# Altium footprint library RUT2CLOUD.PcbLib: 44 footprints (part 3 of 3)
Each footprint in its own frame and in the unit in brackets; x right, y up, seen from the top. Pads: shape width x height; smd on the part's side, far side on the other; paste and mask are expansions set on the pad; w line width, h text height; cw(c..) or ccw(c..) is an arc to the next point about the centre after c.
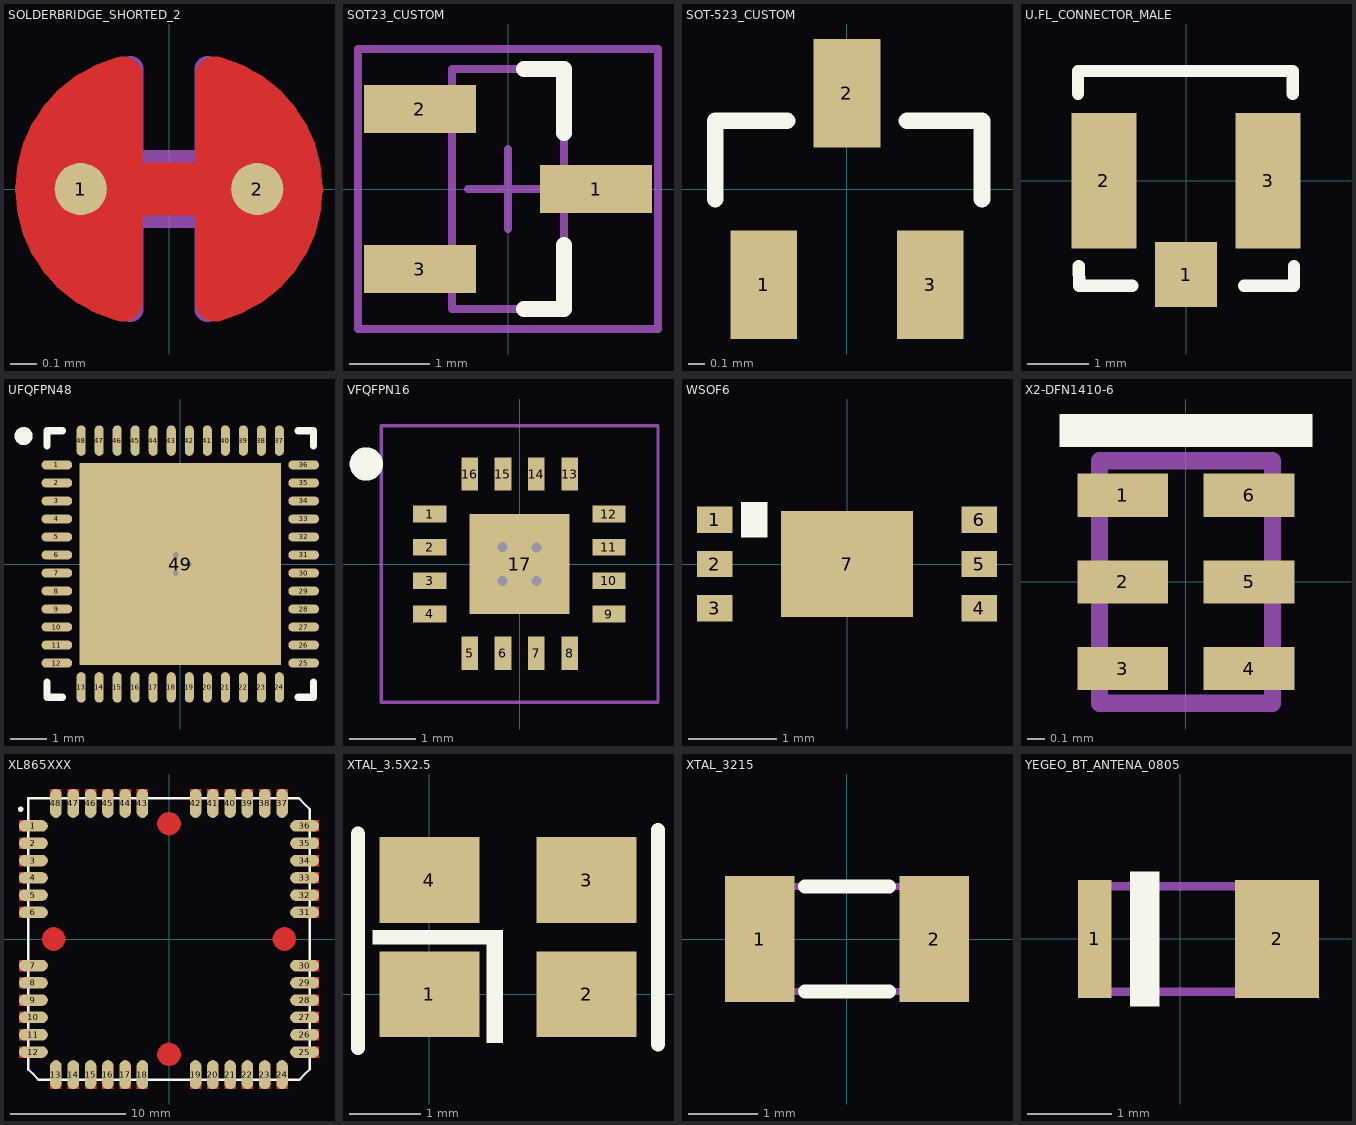
[diagram p2: the footprints below, top view; thin cyan lines are the x and y axes]

## SOLDERBRIDGE_SHORTED_2 [mm]
pads (2):
  round 0.2 smd paste-10: 1(-0.338,0) 2(0.338,0)
Top Layer:
  region: -0.102,-0.432 -0.178,-0.505 -0.296,-0.467 -0.361,-0.424 -0.434,-0.351 -0.488,-0.292 -0.546,-0.193 -0.574,-0.099 -0.569,0.122 -0.544,0.193 -0.46,0.33 -0.376,0.411 -0.284,0.469 -0.183,0.5 -0.132,0.483 -0.102,0.43
  region: 0.102,0.432 0.178,0.505 0.296,0.467 0.361,0.424 0.434,0.351 0.488,0.292 0.546,0.193 0.574,0.099 0.569,-0.122 0.544,-0.193 0.46,-0.33 0.376,-0.411 0.284,-0.469 0.183,-0.5 0.132,-0.483 0.102,-0.43
  lines w0.152: -0.178,-0.431 cw(c-0.068,0) -0.178,0.431 ; 0.178,-0.431 ccw(c0.068,0) 0.178,0.431
  lines w0.203: -0.338,0 0.338,0
Top Solder:
  circle w0.61: c0.028,0 r0.279
  circle w0.61: c-0.028,0 r0.279
Mechanical 7:
  lines w0.1: -0.148,-0.459 cw(c-0.067,0) -0.148,0.459 -0.148,0.1 0.148,0.1 0.148,0.459 cw(c0.067,0) 0.148,-0.459 0.148,-0.1 -0.148,-0.1 -0.148,-0.459

## SOT23_CUSTOM [mm] "SOT23, 3-Leads, Body 3.0x2.5mm (max), Pitch 0.95mm, IPC Medium Density"
height 1.1
pads (3):
  rect 1.4x0.6 smd: 1(1.1,0) 2(-1.1,1) 3(-1.1,-1)
Top Overlay:
  lines w0.2: 0.2,-1.5 0.7,-1.5 0.7,-0.7 ; 0.2,1.5 0.7,1.5 0.7,0.7
Mechanical 13:
  lines w0.1: -0.7,-1.5 0.7,-1.5 0.7,1.5 -0.7,1.5 -0.7,-1.5
Mechanical 15:
  lines w0.1: -0.5,0 0.5,0 ; 0,-0.5 0,0.5 ; -1.875,-1.75 1.875,-1.75 1.875,1.75 -1.875,1.75 -1.875,-1.75
3D body "SOT23.STEP": height 1, standoff -0.1, extent -1.569,-1.5 1.569,1.5

## SOT-523_CUSTOM [mm]
pads (3):
  rect 0.4x0.65 smd: 1(-0.5,-0.575) 2(0,0.575) 3(0.5,-0.575)
Top Overlay:
  lines w0.1: -0.79,-0.06 -0.79,0.41 -0.36,0.41 ; 0.36,0.41 0.81,0.41 0.81,-0.06
3D body "User Library-SOT-523.step": height 0.8, standoff 0, extent -0.79,-0.81 0.81,0.79

## U.FL_CONNECTOR_MALE [mm]
height 1.25
pads (3):
  rect 1x1.05 smd: 1(0,-1.52)
  rect 1.05x2.2 smd: 2(-1.33,0) 3(1.33,0)
Top Overlay:
  lines w0.2: -1.75,1.41 -1.75,1.78 1.728,1.78 1.728,1.41 ; -1.739,-1.38 -1.73,-1.7 -0.87,-1.7 ; 0.94,-1.7 1.75,-1.7 1.75,-1.38
3D body "U_FL-R-SMT-1.step": height 1.25, standoff -0.01, extent -1.5,-1.55 1.5,1.55

## UFQFPN48 [mm] "QFN, 48-Leads, Body 7,00x7,00mm, Pitch 0,50mm, Thermal Pad 5,60x5,60mm, IPC Medium Density"
height 0.6
pads (49):
  oval 0.85x0.25 smd: 1(-3.425,2.75) 2(-3.425,2.25) 3(-3.425,1.75) 4(-3.425,1.25) 5(-3.425,0.75) 6(-3.425,0.25) 7(-3.425,-0.25) 8(-3.425,-0.75) 9(-3.425,-1.25) 10(-3.425,-1.75) 11(-3.425,-2.25) 12(-3.425,-2.75) 25(3.425,-2.75) 26(3.425,-2.25) 27(3.425,-1.75) 28(3.425,-1.25) 29(3.425,-0.75) 30(3.425,-0.25) 31(3.425,0.25) 32(3.425,0.75) 33(3.425,1.25) 34(3.425,1.75) 35(3.425,2.25) 36(3.425,2.75)
  oval 0.25x0.85 smd: 13(-2.75,-3.425) 14(-2.25,-3.425) 15(-1.75,-3.425) 16(-1.25,-3.425) 17(-0.75,-3.425) 18(-0.25,-3.425) 19(0.25,-3.425) 20(0.75,-3.425) 21(1.25,-3.425) 22(1.75,-3.425) 23(2.25,-3.425) 24(2.75,-3.425) 37(2.75,3.425) 38(2.25,3.425) 39(1.75,3.425) 40(1.25,3.425) 41(0.75,3.425) 42(0.25,3.425) 43(-0.25,3.425) 44(-0.75,3.425) 45(-1.25,3.425) 46(-1.75,3.425) 47(-2.25,3.425) 48(-2.75,3.425)
  rect 5.6x5.6 smd: 49(0,0)
via -0.127,0.254 diameter 0.3 hole 0.15
via -0.127,-0.254 diameter 0.3 hole 0.15
via 0.254,0 diameter 0.3 hole 0.15
Top Overlay:
  circle w0.25: c-4.35,3.55 r0.125
  lines w0.2: -3.7,-3.275 -3.7,-3.7 -3.275,-3.7 ; -3.7,3.275 -3.7,3.7 -3.275,3.7 ; 3.275,-3.7 3.7,-3.7 3.7,-3.275 ; 3.275,3.7 3.7,3.7 3.7,3.275
3D body "ALSRobot-QFN48 7x7.step": height 0.78, standoff -0.02, extent -3.51,-3.51 3.51,3.51

## VFQFPN16 [mm] "VFQFPN16 (3 x 3 mm)"
height 0.9
pads (17):
  rect 0.5x0.25 smd: 1(-1.35,0.75) 2(-1.35,0.25) 3(-1.35,-0.25) 4(-1.35,-0.75) 9(1.34,-0.75) 10(1.34,-0.25) 11(1.34,0.25) 12(1.34,0.75)
  rect 0.25x0.5 smd: 5(-0.75,-1.34) 6(-0.25,-1.34) 7(0.25,-1.34) 8(0.75,-1.34) 13(0.75,1.35) 14(0.25,1.35) 15(-0.25,1.35) 16(-0.75,1.35)
  rect 1.5x1.5 smd: 17(0,0)
via 0.25,-0.254 diameter 0.3 hole 0.15
via -0.258,0.254 diameter 0.3 hole 0.15
via -0.258,-0.254 diameter 0.3 hole 0.15
via 0.25,0.25 diameter 0.3 hole 0.15
Top Overlay:
  circle w0.25: c-2.3,1.5 r0.125
Mechanical 15:
  lines w0.05: -2.075,-2.075 -2.075,2.075 2.075,2.075 2.075,-2.075 -2.075,-2.075
  lines w0.1: -0.5,0 0.5,0 ; 0,-0.5 0,0.5
3D body "User Library-QFN-16_3x3.STEP": height 0.9, standoff 0, extent -1.53,-1.521 1.512,1.521

## WSOF6 [mm] "SMD 1.60mm x 3.00mm x 0.75mm"
height 0.75
pads (7):
  rect 0.4x0.3 smd: 1(-1.5,0.5) 2(-1.5,0) 3(-1.5,-0.5) 4(1.5,-0.5) 5(1.5,0) 6(1.5,0.5)
  rect 1.5x1.2 smd: 7(0,0)
Top Overlay:
  rectangle: -1.2,0.3 -0.9,0.7
3D body "User Library-BH1750FVI-1.step": height 0.75, standoff -0.01, extent -1.5,-0.8 1.5,0.8

## X2-DFN1410-6 [mm] "1.4x1.0mm"
height 0.4
pads (6):
  rect 0.525x0.25 smd: 1(-0.365,0.5) 2(-0.365,0) 3(-0.365,-0.5) 4(0.365,-0.5) 5(0.365,0) 6(0.365,0.5)
Top Overlay:
  rectangle: -0.73,0.78 0.73,0.97
Mechanical 1:
  lines w0.1: -0.5,-0.7 0.5,-0.7 0.5,0.7 -0.5,0.7 -0.5,-0.7
3D body: height 0.4, standoff 0.02, extent -0.5,-0.7 0.5,0.7

## XL865XXX [mm] "XL865XXX"
height 1.15
pads (48):
  oval 2.5x1 smd paste+0 mask+0.05: 1(-11.75,9.8) 2(-11.75,8.3) 3(-11.75,6.8) 4(-11.75,5.3) 5(-11.75,3.8) 6(-11.75,2.3) 7(-11.75,-2.3) 8(-11.75,-3.8) 9(-11.75,-5.3) 10(-11.75,-6.8) 11(-11.75,-8.3) 12(-11.75,-9.8) 25(11.75,-9.8) 26(11.75,-8.3) 27(11.75,-6.8) 28(11.75,-5.3) 29(11.75,-3.8) 30(11.75,-2.3) 31(11.75,2.3) 32(11.75,3.8) 33(11.75,5.3) 34(11.75,6.8) 35(11.75,8.3) 36(11.75,9.8)
  oval 1x2.5 smd paste+0 mask+0.05: 13(-9.8,-11.75) 14(-8.3,-11.75) 15(-6.8,-11.75) 16(-5.3,-11.75) 17(-3.8,-11.75) 18(-2.3,-11.75) 19(2.3,-11.75) 20(3.8,-11.75) 21(5.3,-11.75) 22(6.8,-11.75) 23(8.3,-11.75) 24(9.8,-11.75) 37(9.8,11.75) 38(8.3,11.75) 39(6.8,11.75) 40(5.3,11.75) 41(3.8,11.75) 42(2.3,11.75) 43(-2.3,11.75) 44(-3.8,11.75) 45(-5.3,11.75) 46(-6.8,11.75) 47(-8.3,11.75) 48(-9.8,11.75)
Top Layer:
  rectangle: 1.8,-13 2.8,-12.375
  rectangle: 4.8,-13 5.8,-12.375
  rectangle: 7.8,-13 8.8,-12.375
  rectangle: 9.3,-13 10.3,-12.375
  rectangle: 6.3,-13 7.3,-12.375
  rectangle: 3.3,-13 4.3,-12.375
  rectangle: -10.3,-13 -9.3,-12.375
  rectangle: -7.3,-13 -6.3,-12.375
  rectangle: -4.3,-13 -3.3,-12.375
  rectangle: -2.8,-13 -1.8,-12.375
  rectangle: -5.8,-13 -4.8,-12.375
  rectangle: -8.8,-13 -7.8,-12.375
  rectangle: 1.8,12.375 2.8,13
  rectangle: 4.8,12.375 5.8,13
  rectangle: 7.8,12.375 8.8,13
  rectangle: 9.3,12.375 10.3,13
  rectangle: 6.3,12.375 7.3,13
  rectangle: 3.3,12.375 4.3,13
  rectangle: -8.8,12.375 -7.8,13
  rectangle: -5.8,12.375 -4.8,13
  rectangle: -2.8,12.375 -1.8,13
  rectangle: -4.3,12.375 -3.3,13
  rectangle: -7.3,12.375 -6.3,13
  rectangle: -10.3,12.375 -9.3,13
  rectangle: 12.5,-2.8 13,-1.8
  rectangle: 12.5,-4.3 13,-3.3
  rectangle: 12.5,-7.3 13,-6.3
  rectangle: 12.5,-5.8 13,-4.8
  rectangle: 12.5,-10.3 13,-9.3
  rectangle: 12.5,-8.8 13,-7.8
  rectangle: 12.5,9.3 13,10.3
  rectangle: 12.5,7.8 13,8.8
  rectangle: 12.5,4.8 13,5.8
  rectangle: 12.5,6.3 13,7.3
  rectangle: 12.5,1.8 13,2.8
  rectangle: 12.5,3.3 13,4.3
  rectangle: -13,-2.8 -12.5,-1.8
  rectangle: -13,-4.3 -12.5,-3.3
  rectangle: -13,-7.3 -12.5,-6.3
  rectangle: -13,-5.8 -12.5,-4.8
  rectangle: -13,-10.3 -12.5,-9.3
  rectangle: -13,-8.8 -12.5,-7.8
  rectangle: -13,3.3 -12.5,4.3
  rectangle: -13,1.8 -12.5,2.8
  rectangle: -13,6.3 -12.5,7.3
  rectangle: -13,4.8 -12.5,5.8
  rectangle: -13,7.8 -12.5,8.8
  rectangle: -13,9.3 -12.5,10.3
  region: -9,0 -9,0.098 -9.038,0.292 -9.114,0.474 -9.223,0.637 -9.363,0.777 -9.526,0.886 -9.708,0.962 -9.902,1 -10,1 -10.098,1 -10.292,0.962 -10.474,0.886 -10.637,0.777 -10.777,0.637 -10.886,0.474 -10.962,0.292 -11,0.098 -11,0 -11,-0.098 -10.962,-0.292 -10.886,-0.474 -10.777,-0.637 -10.637,-0.777 -10.474,-0.886 -10.292,-0.962 -10.098,-1 -10,-1 -9.902,-1 -9.708,-0.962 -9.526,-0.886 -9.363,-0.777 -9.223,-0.637 -9.114,-0.474 -9.038,-0.292 -9,-0.098
  region: 1,-10 1,-9.902 0.962,-9.708 0.886,-9.526 0.777,-9.363 0.637,-9.223 0.474,-9.114 0.292,-9.038 0.098,-9 0,-9 -0.098,-9 -0.292,-9.038 -0.474,-9.114 -0.637,-9.223 -0.777,-9.363 -0.886,-9.526 -0.962,-9.708 -1,-9.902 -1,-10 -1,-10.098 -0.962,-10.292 -0.886,-10.474 -0.777,-10.637 -0.637,-10.777 -0.474,-10.886 -0.292,-10.962 -0.098,-11 0,-11 0.098,-11 0.292,-10.962 0.474,-10.886 0.637,-10.777 0.777,-10.637 0.886,-10.474 0.962,-10.292 1,-10.098
  region: 11,0 11,0.098 10.962,0.292 10.886,0.474 10.777,0.637 10.637,0.777 10.474,0.886 10.292,0.962 10.098,1 10,1 9.902,1 9.708,0.962 9.526,0.886 9.363,0.777 9.223,0.637 9.114,0.474 9.038,0.292 9,0.098 9,0 9,-0.098 9.038,-0.292 9.114,-0.474 9.223,-0.637 9.363,-0.777 9.526,-0.886 9.708,-0.962 9.902,-1 10,-1 10.098,-1 10.292,-0.962 10.474,-0.886 10.637,-0.777 10.777,-0.637 10.886,-0.474 10.962,-0.292 11,-0.098
  region: 1,10 1,10.098 0.962,10.292 0.886,10.474 0.777,10.637 0.637,10.777 0.474,10.886 0.292,10.962 0.098,11 0,11 -0.098,11 -0.292,10.962 -0.474,10.886 -0.637,10.777 -0.777,10.637 -0.886,10.474 -0.962,10.292 -1,10.098 -1,10 -1,9.902 -0.962,9.708 -0.886,9.526 -0.777,9.363 -0.637,9.223 -0.474,9.114 -0.292,9.038 -0.098,9 0,9 0.098,9 0.292,9.038 0.474,9.114 0.637,9.223 0.777,9.363 0.886,9.526 0.962,9.708 1,9.902
Top Overlay:
  circle w0.254: c-12.85,11.24 r0.114
  lines w0.2: -12.2,-11.29 -11.29,-12.2 11.28,-12.2 12.2,-11.28 12.2,11.25 11.25,12.2 -12.2,12.2 -12.2,-11.29
Mechanical 1:
  lines w0.1: -12.2,-11.45 cw(c-12.2,-12.2) -11.45,-12.2 11.45,-12.2 cw(c12.2,-12.2) 12.2,-11.45 12.2,11.45 cw(c12.2,12.2) 11.45,12.2 -12.2,12.2 -12.2,-11.45
Mechanical 4:
  text "Wiring inhibit" at -9.12,5.596 h0.7
3D body "User Library-Telit  GL865-DUAL V3.STEP": height 2.56, standoff 0, extent -12.2,-12.2 12.2,12.2

## XTAL_3.5X2.5 [mm] "Quartz resonator 3.2x2.5mm"
height 1
pads (4):
  rect 1.4x1.2 smd: 1(0,0) 2(2.2,0) 3(2.2,1.6) 4(0,1.6)
Top Overlay:
  rectangle: 0.8,-0.68 1.03,0.75
  rectangle: -0.8,0.7 1.03,0.9
  lines w0.2: -1,-0.75 -1,2.25 ; 3.2,-0.7 3.2,2.3
3D body "User Library-tsx-3225.STEP": height 0.6, standoff 0, extent -0.49,-0.46 2.71,2.04

## XTAL_3215 [mm] "XTAL SMD 3.2 x 1.5 mm"
height 0.8
pads (2):
  rect 1x1.8 smd: 1(-1.25,0) 2(1.25,0)
Top Overlay:
  lines w0.2: -0.6,-0.75 0.6,-0.75 ; -0.6,0.75 0.6,0.75
Mechanical 7:
  lines w0.1: -1.6,-0.75 -1.6,0.75 1.6,0.75 1.6,-0.75 -1.6,-0.75
Mechanical 15:
  lines w0.1: -1.6,-0.55 cw(c-1.6,-0.75) -1.4,-0.75 1.4,-0.75 cw(c1.6,-0.75) 1.6,-0.55 1.6,0.55 cw(c1.6,0.75) 1.4,0.75 -1.4,0.75 cw(c-1.6,0.75) -1.6,0.55 -1.6,-0.55
3D body: height 0.81, standoff 0.15, extent -1.2,-0.6 1.2,0.6
3D body "User Library-Siward_SX3215.step": height 0.81, standoff 0, extent -1.6,-0.75 1.6,0.75

## YEGEO_BT_ANTENA_0805 [mm]
height 1.1
pads (2):
  rect 0.4x1.4 smd: 1(-1.016,0)
  rect 1x1.4 smd: 2(1.15,0)
Top Overlay:
  rectangle: -0.6,-0.8 -0.25,0.8
Mechanical 1:
  lines w0.1: -1,-0.625 1,-0.625 1,0.625 -1,0.625 -1,-0.625
3D body: height 1.1, standoff 0.05, extent -1.03,-0.625 0.97,0.625